# Altium footprint library Jumpers.PcbLib: 19 footprints (part 2 of 2)
Each footprint in its own frame and in the unit in brackets; x right, y up, seen from the top. Pads: shape width x height; smd on the part's side, far side on the other; paste and mask are expansions set on the pad; w line width, h text height; cw(c..) or ccw(c..) is an arc to the next point about the centre after c.
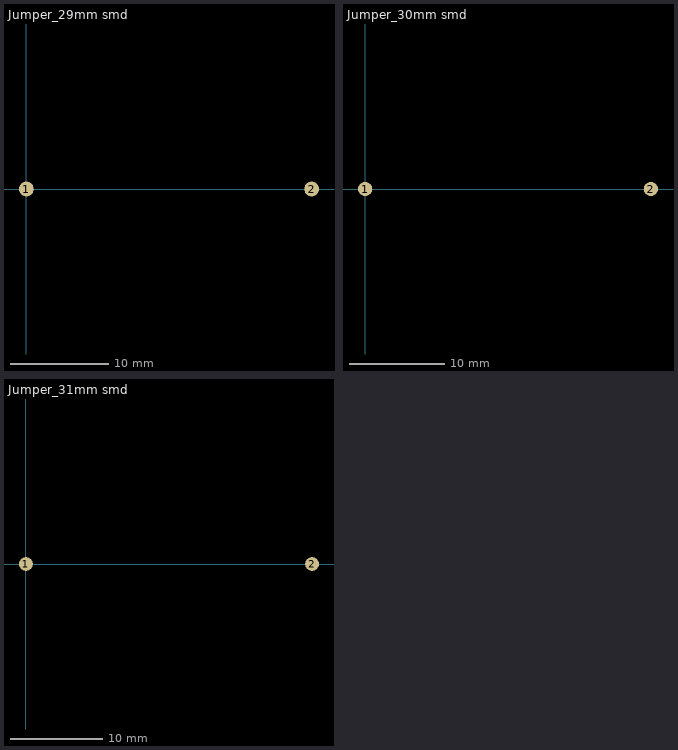
[diagram p1: the footprints below, top view; thin cyan lines are the x and y axes]

## Jumper_29mm smd [mm]
pads (2):
  round 1.5 smd: 1(0,0) 2(29,0)

## Jumper_30mm smd [mm]
pads (2):
  round 1.5 smd: 1(0,0) 2(30,0)

## Jumper_31mm smd [mm]
pads (2):
  round 1.5 smd: 1(0,0) 2(31,0)